# Altium footprint library WR-TBL_Pluggable Connector_5.00mm.PcbLib: 148 footprints (part 9 of 10)
Each footprint in its own frame and in the unit in brackets; x right, y up, seen from the top. Pads: shape width x height; smd on the part's side, far side on the other; paste and mask are expansions set on the pad; w line width, h text height; cw(c..) or ccw(c..) is an arc to the next point about the centre after c.
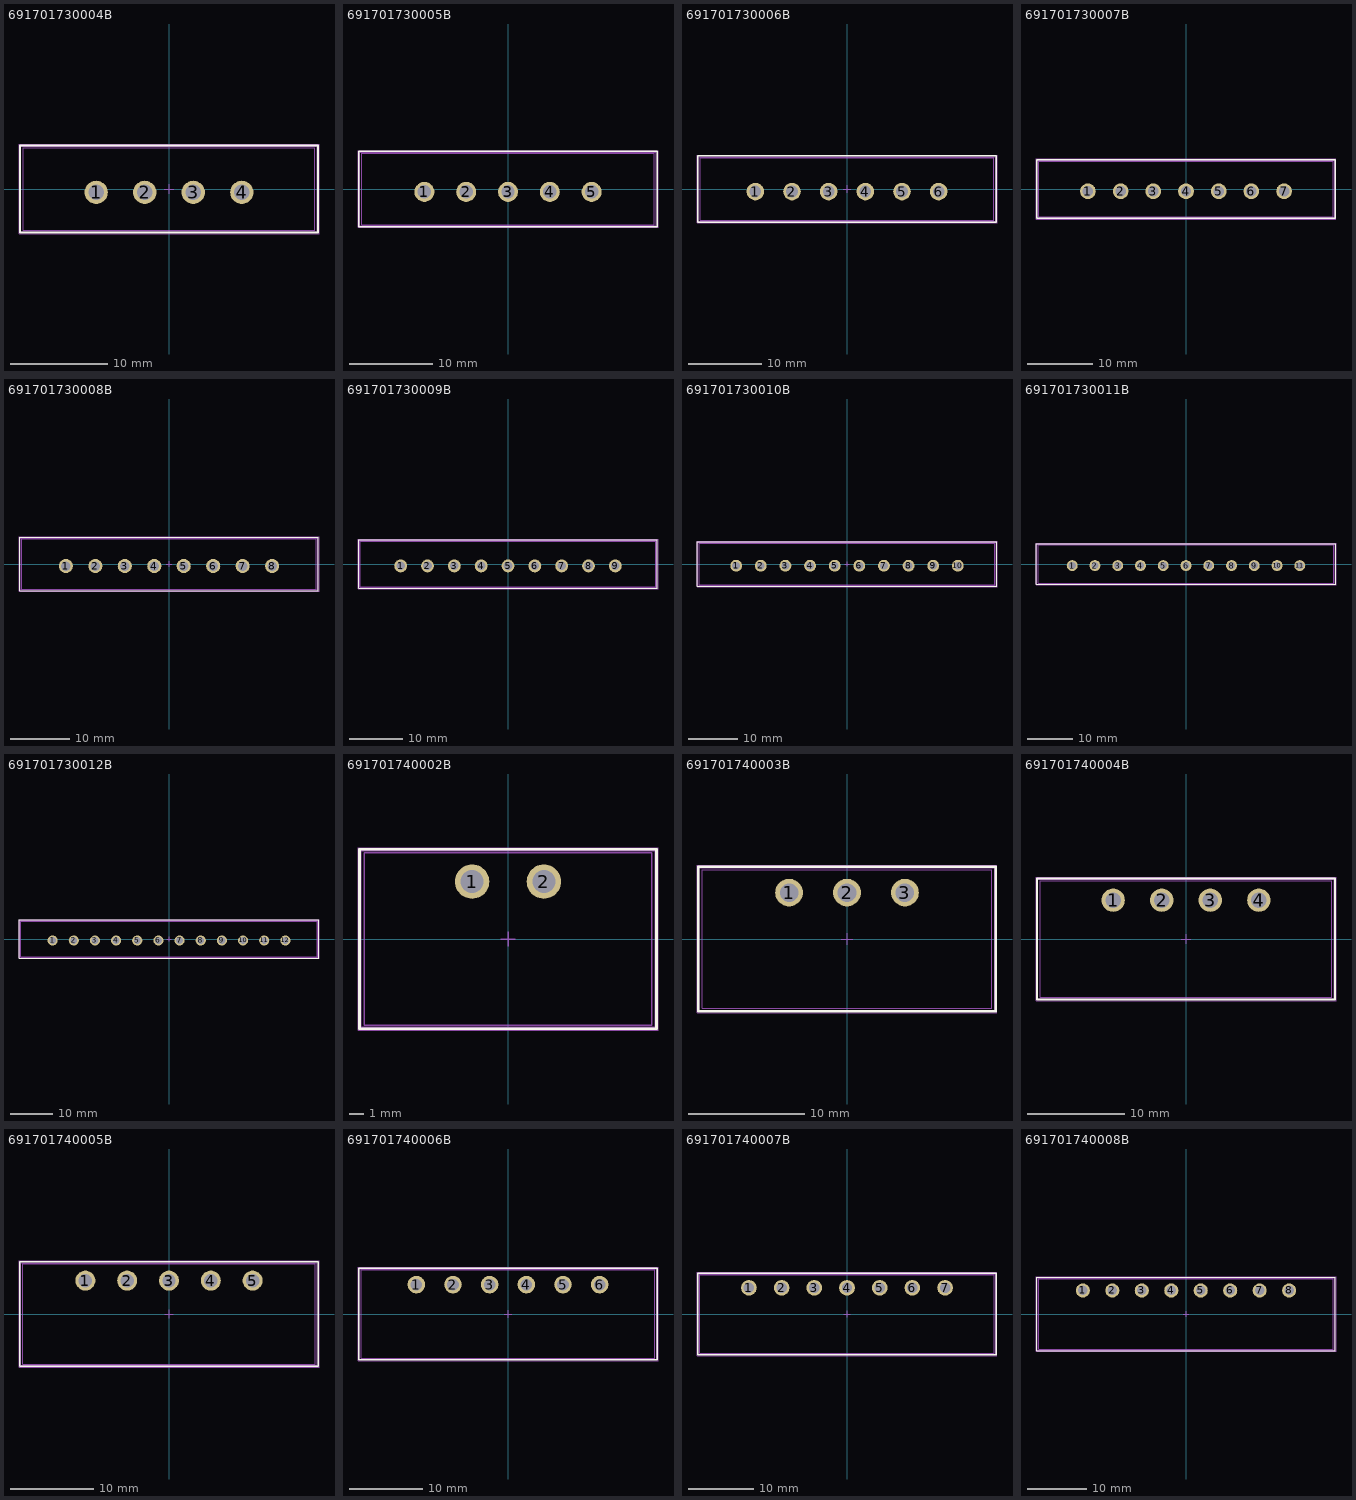
[diagram p8: the footprints below, top view; thin cyan lines are the x and y axes]

## 691701730004B [mm] "5.00 mm Closed Vertical PCB Header THR Type with Flanges, 04p"
height 12
pads (4):
  round 2.4 hole 1.6: 1(-7.5,-0.35) 2(-2.5,-0.35) 3(2.5,-0.35) 4(7.5,-0.35)
Top Overlay:
  lines w0.2: -15.35,-4.5 -15.35,4.5 15.35,4.5 15.35,-4.5 -15.35,-4.5
Top Paste:
  region: 5.5,1.5 9.5,1.5 9.5,-2.2 5.5,-2.2
  region: 0.5,1.5 4.5,1.5 4.5,-2.2 0.5,-2.2
  region: -4.5,1.5 -0.5,1.5 -0.5,-2.2 -4.5,-2.2
  region: -9.5,1.5 -5.5,1.5 -5.5,-2.2 -9.5,-2.2
Assembly Notes:
  text "Stencil thickness : 120 μm" at -5.156,-5.318 h1
Top Assembly:
  lines w0.1: -15.25,-4.4 -15.25,4.4 15.25,4.4 15.25,-4.4 -15.25,-4.4
Top Designator:
  text ".Designator" at -3.647,-0.357 h1
Top 3D Body:
  lines w0.1: -15,-4.25 15,-4.25 15,4.25 -15,4.25 -15,-4.25
Top Courtyard:
  lines w0.05: -15.45,-4.6 15.45,-4.6 15.45,4.6 -15.45,4.6 -15.45,-4.6
Top Component Center:
  lines w0.1: -0.5,0 0.5,0 ; 0,-0.5 0,0.5
3D body "691701730004B.stp": height 12.06, standoff -2.55, extent -15,-4.25 15,4.25

## 691701730005B [mm] "5.00 mm Closed Vertical PCB Header THR Type with Flanges, 05p"
height 12
pads (5):
  round 2.4 hole 1.6: 1(-10,-0.35) 2(-5,-0.35) 3(0,-0.35) 4(5,-0.35) 5(10,-0.35)
Top Overlay:
  lines w0.2: -17.85,-4.5 17.85,-4.5 17.85,4.5 -17.85,4.5 -17.85,-4.5
Top Paste:
  region: 3,1.5 7,1.5 7,-2.2 3,-2.2
  region: -2,1.5 2,1.5 2,-2.2 -2,-2.2
  region: -7,1.5 -3,1.5 -3,-2.2 -7,-2.2
  region: -12,1.5 -8,1.5 -8,-2.2 -12,-2.2
  region: 8,1.5 12,1.5 12,-2.2 8,-2.2
Assembly Notes:
  text "Stencil thickness : 120 μm" at -5.156,-5.318 h1
Top Assembly:
  lines w0.1: -17.75,-4.4 17.75,-4.4 17.75,4.4 -17.75,4.4 -17.75,-4.4
Top Designator:
  text ".Designator" at -3.647,-0.357 h1
Top 3D Body:
  lines w0.1: -17.5,-4.25 -17.5,4.25 17.5,4.25 17.5,-4.25 -17.5,-4.25
Top Courtyard:
  lines w0.05: -17.95,-4.6 -17.95,4.6 17.95,4.6 17.95,-4.6 -17.95,-4.6
Top Component Center:
  lines w0.1: -0.5,0 0.5,0 ; 0,-0.5 0,0.5
3D body "691701730005B.stp": height 12.06, standoff -2.55, extent -17.5,-4.25 17.5,4.25

## 691701730006B [mm] "5.00 mm Closed Vertical PCB Header THR Type with Flanges, 06p"
height 12
pads (6):
  round 2.4 hole 1.6: 1(-12.5,-0.35) 2(-7.5,-0.35) 3(-2.5,-0.35) 4(2.5,-0.35) 5(7.5,-0.35) 6(12.5,-0.35)
Top Overlay:
  lines w0.2: -20.35,-4.5 20.35,-4.5 20.35,4.5 -20.35,4.5 -20.35,-4.5
Top Paste:
  region: 5.5,1.5 9.5,1.5 9.5,-2.2 5.5,-2.2
  region: -14.5,1.5 -10.5,1.5 -10.5,-2.2 -14.5,-2.2
  region: -9.5,1.5 -5.5,1.5 -5.5,-2.2 -9.5,-2.2
  region: -4.5,1.5 -0.5,1.5 -0.5,-2.2 -4.5,-2.2
  region: 0.5,1.5 4.5,1.5 4.5,-2.2 0.5,-2.2
  region: 10.5,1.5 14.5,1.5 14.5,-2.2 10.5,-2.2
Assembly Notes:
  text "Stencil thickness : 120 μm" at -5.156,-5.318 h1
Top Assembly:
  lines w0.1: -20.25,-4.4 20.25,-4.4 20.25,4.4 -20.25,4.4 -20.25,-4.4
Top Designator:
  text ".Designator" at -3.647,-0.357 h1
Top 3D Body:
  lines w0.1: -20,-4.25 -20,4.25 20,4.25 20,-4.25 -20,-4.25
Top Courtyard:
  lines w0.05: -20.45,-4.6 -20.45,4.6 20.45,4.6 20.45,-4.6 -20.45,-4.6
Top Component Center:
  lines w0.1: -0.5,0 0.5,0 ; 0,-0.5 0,0.5
3D body "691701730006B.stp": height 12.06, standoff -2.55, extent -20,-4.25 20,4.25

## 691701730007B [mm] "5.00 mm Closed Vertical PCB Header THR Type with Flanges, 07p"
height 12
pads (7):
  round 2.4 hole 1.6: 1(-15,-0.35) 2(-10,-0.35) 3(-5,-0.35) 4(0,-0.35) 5(5,-0.35) 6(10,-0.35) 7(15,-0.35)
Top Overlay:
  lines w0.2: -22.85,-4.5 -22.85,4.5 22.85,4.5 22.85,-4.5 -22.85,-4.5
Top Paste:
  region: 13,1.5 17,1.5 17,-2.2 13,-2.2
  region: 3,1.5 7,1.5 7,-2.2 3,-2.2
  region: -17,1.5 -13,1.5 -13,-2.2 -17,-2.2
  region: -12,1.5 -8,1.5 -8,-2.2 -12,-2.2
  region: -7,1.5 -3,1.5 -3,-2.2 -7,-2.2
  region: -2,1.5 2,1.5 2,-2.2 -2,-2.2
  region: 8,1.5 12,1.5 12,-2.2 8,-2.2
Assembly Notes:
  text "Stencil thickness : 120 μm" at -5.156,-5.318 h1
Top Assembly:
  lines w0.1: -22.75,-4.4 -22.75,4.4 22.75,4.4 22.75,-4.4 -22.75,-4.4
Top Designator:
  text ".Designator" at -3.647,-0.357 h1
Top 3D Body:
  lines w0.1: -22.5,-4.25 22.5,-4.25 22.5,4.25 -22.5,4.25 -22.5,-4.25
Top Courtyard:
  lines w0.05: -22.95,-4.6 22.95,-4.6 22.95,4.6 -22.95,4.6 -22.95,-4.6
Top Component Center:
  lines w0.1: -0.5,0 0.5,0 ; 0,-0.5 0,0.5
3D body "691701730007B.stp": height 12.06, standoff -2.55, extent -22.5,-4.25 22.5,4.25

## 691701730008B [mm] "5.00 mm Closed Vertical PCB Header THR Type with Flanges, 08p"
height 12
pads (8):
  round 2.4 hole 1.6: 1(-17.5,-0.35) 2(-12.5,-0.35) 3(-7.5,-0.35) 4(-2.5,-0.35) 5(2.5,-0.35) 6(7.5,-0.35) 7(12.5,-0.35) 8(17.5,-0.35)
Top Overlay:
  lines w0.2: -25.35,-4.5 -25.35,4.5 25.35,4.5 25.35,-4.5 -25.35,-4.5
Top Paste:
  region: 15.5,1.5 19.5,1.5 19.5,-2.2 15.5,-2.2
  region: 10.5,1.5 14.5,1.5 14.5,-2.2 10.5,-2.2
  region: 0.5,1.5 4.5,1.5 4.5,-2.2 0.5,-2.2
  region: -19.5,1.5 -15.5,1.5 -15.5,-2.2 -19.5,-2.2
  region: -14.5,1.5 -10.5,1.5 -10.5,-2.2 -14.5,-2.2
  region: -9.5,1.5 -5.5,1.5 -5.5,-2.2 -9.5,-2.2
  region: -4.5,1.5 -0.5,1.5 -0.5,-2.2 -4.5,-2.2
  region: 5.5,1.5 9.5,1.5 9.5,-2.2 5.5,-2.2
Assembly Notes:
  text "Stencil thickness : 120 μm" at -5.156,-5.318 h1
Top Assembly:
  lines w0.1: -25.25,-4.4 -25.25,4.4 25.25,4.4 25.25,-4.4 -25.25,-4.4
Top Designator:
  text ".Designator" at -3.647,-0.357 h1
Top 3D Body:
  lines w0.1: -25,-4.25 25,-4.25 25,4.25 -25,4.25 -25,-4.25
Top Courtyard:
  lines w0.05: -25.45,-4.6 25.45,-4.6 25.45,4.6 -25.45,4.6 -25.45,-4.6
Top Component Center:
  lines w0.1: -0.5,0 0.5,0 ; 0,-0.5 0,0.5
3D body "691701730008B.stp": height 12.06, standoff -2.55, extent -25,-4.25 25,4.25

## 691701730009B [mm] "5.00 mm Closed Vertical PCB Header THR Type with Flanges, 09p"
height 12
pads (9):
  round 2.4 hole 1.6: 1(-20,-0.35) 2(-15,-0.35) 3(-10,-0.35) 4(-5,-0.35) 5(0,-0.35) 6(5,-0.35) 7(10,-0.35) 8(15,-0.35) 9(20,-0.35)
Top Overlay:
  lines w0.2: -27.85,-4.5 27.85,-4.5 27.85,4.5 -27.85,4.5 -27.85,-4.5
Top Paste:
  region: 3,1.5 7,1.5 7,-2.2 3,-2.2
  region: -7,1.5 -3,1.5 -3,-2.2 -7,-2.2
  region: -12,1.5 -8,1.5 -8,-2.2 -12,-2.2
  region: -17,1.5 -13,1.5 -13,-2.2 -17,-2.2
  region: -22,1.5 -18,1.5 -18,-2.2 -22,-2.2
  region: -2,1.5 2,1.5 2,-2.2 -2,-2.2
  region: 8,1.5 12,1.5 12,-2.2 8,-2.2
  region: 13,1.5 17,1.5 17,-2.2 13,-2.2
  region: 18,1.5 22,1.5 22,-2.2 18,-2.2
Assembly Notes:
  text "Stencil thickness : 120 μm" at -5.156,-5.318 h1
Top Assembly:
  lines w0.1: -27.75,-4.4 27.75,-4.4 27.75,4.4 -27.75,4.4 -27.75,-4.4
Top Designator:
  text ".Designator" at -3.647,-0.357 h1
Top 3D Body:
  lines w0.1: -27.5,-4.25 -27.5,4.25 27.5,4.25 27.5,-4.25 -27.5,-4.25
Top Courtyard:
  lines w0.05: -27.95,-4.6 -27.95,4.6 27.95,4.6 27.95,-4.6 -27.95,-4.6
Top Component Center:
  lines w0.1: -0.5,0 0.5,0 ; 0,-0.5 0,0.5
3D body "691701730009B.stp": height 12.06, standoff -2.55, extent -27.5,-4.25 27.5,4.25

## 691701730010B [mm] "5.00 mm Closed Vertical PCB Header THR Type with Flanges, 10p"
height 12
pads (10):
  round 2.4 hole 1.6: 1(-22.5,-0.35) 2(-17.5,-0.35) 3(-12.5,-0.35) 4(-7.5,-0.35) 5(-2.5,-0.35) 6(2.5,-0.35) 7(7.5,-0.35) 8(12.5,-0.35) 9(17.5,-0.35) 10(22.5,-0.35)
Top Overlay:
  lines w0.2: -30.35,-4.5 30.35,-4.5 30.35,4.5 -30.35,4.5 -30.35,-4.5
Top Paste:
  region: 20.5,1.5 24.5,1.5 24.5,-2.2 20.5,-2.2
  region: 15.5,1.5 19.5,1.5 19.5,-2.2 15.5,-2.2
  region: 10.5,1.5 14.5,1.5 14.5,-2.2 10.5,-2.2
  region: 5.5,1.5 9.5,1.5 9.5,-2.2 5.5,-2.2
  region: -4.5,1.5 -0.5,1.5 -0.5,-2.2 -4.5,-2.2
  region: -24.5,1.5 -20.5,1.5 -20.5,-2.2 -24.5,-2.2
  region: -19.5,1.5 -15.5,1.5 -15.5,-2.2 -19.5,-2.2
  region: -14.5,1.5 -10.5,1.5 -10.5,-2.2 -14.5,-2.2
  region: -9.5,1.5 -5.5,1.5 -5.5,-2.2 -9.5,-2.2
  region: 0.5,1.5 4.5,1.5 4.5,-2.2 0.5,-2.2
Assembly Notes:
  text "Stencil thickness : 120 μm" at -5.156,-5.318 h1
Top Assembly:
  lines w0.1: -30.25,-4.4 30.25,-4.4 30.25,4.4 -30.25,4.4 -30.25,-4.4
Top Designator:
  text ".Designator" at -3.647,-0.357 h1
Top 3D Body:
  lines w0.1: -30,-4.25 -30,4.25 30,4.25 30,-4.25 -30,-4.25
Top Courtyard:
  lines w0.05: -30.45,-4.6 -30.45,4.6 30.45,4.6 30.45,-4.6 -30.45,-4.6
Top Component Center:
  lines w0.1: -0.5,0 0.5,0 ; 0,-0.5 0,0.5
3D body "691701730010B.stp": height 12.06, standoff -2.55, extent -30,-4.25 30,4.25

## 691701730011B [mm] "5.00 mm Closed Vertical PCB Header THR Type with Flanges, 11p"
height 12
pads (11):
  round 2.4 hole 1.6: 1(-25,-0.35) 2(-20,-0.35) 3(-15,-0.35) 4(-10,-0.35) 5(-5,-0.35) 6(0,-0.35) 7(5,-0.35) 8(10,-0.35) 9(15,-0.35) 10(20,-0.35) 11(25,-0.35)
Top Overlay:
  lines w0.2: -32.85,-4.5 32.85,-4.5 32.85,4.5 -32.85,4.5 -32.85,-4.5
Top Paste:
  region: 23,1.5 27,1.5 27,-2.2 23,-2.2
  region: 18,1.5 22,1.5 22,-2.2 18,-2.2
  region: 13,1.5 17,1.5 17,-2.2 13,-2.2
  region: 8,1.5 12,1.5 12,-2.2 8,-2.2
  region: 3,1.5 7,1.5 7,-2.2 3,-2.2
  region: -7,1.5 -3,1.5 -3,-2.2 -7,-2.2
  region: -27,1.5 -23,1.5 -23,-2.2 -27,-2.2
  region: -22,1.5 -18,1.5 -18,-2.2 -22,-2.2
  region: -17,1.5 -13,1.5 -13,-2.2 -17,-2.2
  region: -12,1.5 -8,1.5 -8,-2.2 -12,-2.2
  region: -2,1.5 2,1.5 2,-2.2 -2,-2.2
Assembly Notes:
  text "Stencil thickness : 120 μm" at -5.156,-5.318 h1
Top Assembly:
  lines w0.1: -32.75,-4.4 32.75,-4.4 32.75,4.4 -32.75,4.4 -32.75,-4.4
Top Designator:
  text ".Designator" at -3.647,-0.357 h1
Top 3D Body:
  lines w0.1: -32.5,-4.25 -32.5,4.25 32.5,4.25 32.5,-4.25 -32.5,-4.25
Top Courtyard:
  lines w0.05: -32.95,-4.6 -32.95,4.6 32.95,4.6 32.95,-4.6 -32.95,-4.6
Top Component Center:
  lines w0.1: -0.5,0 0.5,0 ; 0,-0.5 0,0.5
3D body "691701730011B.stp": height 12.06, standoff -2.55, extent -32.5,-4.25 32.5,4.25

## 691701730012B [mm] "5.00 mm Closed Vertical PCB Header THR Type with Flanges, 12p"
height 12
pads (12):
  round 2.4 hole 1.6: 1(-27.5,-0.35) 2(-22.5,-0.35) 3(-17.5,-0.35) 4(-12.5,-0.35) 5(-7.5,-0.35) 6(-2.5,-0.35) 7(2.5,-0.35) 8(7.5,-0.35) 9(12.5,-0.35) 10(17.5,-0.35) 11(22.5,-0.35) 12(27.5,-0.35)
Top Overlay:
  lines w0.2: -35.35,-4.5 -35.35,4.5 35.35,4.5 35.35,-4.5 -35.35,-4.5
Top Paste:
  region: -4.5,1.5 -0.5,1.5 -0.5,-2.2 -4.5,-2.2
  region: -14.5,1.5 -10.5,1.5 -10.5,-2.2 -14.5,-2.2
  region: -19.5,1.5 -15.5,1.5 -15.5,-2.2 -19.5,-2.2
  region: -24.5,1.5 -20.5,1.5 -20.5,-2.2 -24.5,-2.2
  region: -29.5,1.5 -25.5,1.5 -25.5,-2.2 -29.5,-2.2
  region: -9.5,1.5 -5.5,1.5 -5.5,-2.2 -9.5,-2.2
  region: 0.5,1.5 4.5,1.5 4.5,-2.2 0.5,-2.2
  region: 5.5,1.5 9.5,1.5 9.5,-2.2 5.5,-2.2
  region: 10.5,1.5 14.5,1.5 14.5,-2.2 10.5,-2.2
  region: 15.5,1.5 19.5,1.5 19.5,-2.2 15.5,-2.2
  region: 20.5,1.5 24.5,1.5 24.5,-2.2 20.5,-2.2
  region: 25.5,1.5 29.5,1.5 29.5,-2.2 25.5,-2.2
Assembly Notes:
  text "Stencil thickness : 120 μm" at -5.156,-5.318 h1
Top Assembly:
  lines w0.1: -35.25,-4.4 -35.25,4.4 35.25,4.4 35.25,-4.4 -35.25,-4.4
Top Designator:
  text ".Designator" at -3.647,-0.357 h1
Top 3D Body:
  lines w0.1: -35,-4.25 35,-4.25 35,4.25 -35,4.25 -35,-4.25
Top Courtyard:
  lines w0.05: -35.45,-4.6 35.45,-4.6 35.45,4.6 -35.45,4.6 -35.45,-4.6
Top Component Center:
  lines w0.1: -0.5,0 0.5,0 ; 0,-0.5 0,0.5
3D body "691701730012B.stp": height 12.06, standoff -2.55, extent -35,-4.25 35,4.25

## 691701740002B [mm] "5.00 mm Closed Horizontal PCB Header THR Type with Flanges, 02p"
height 8.5
pads (2):
  round 2.4 hole 1.6: 1(-2.5,4) 2(2.5,4)
Top Overlay:
  lines w0.2: -10.35,-6.25 10.35,-6.25 10.35,6.25 -10.35,6.25 -10.35,-6.25
Top Paste:
  region: 0.5,5.85 4.5,5.85 4.5,2.15 0.5,2.15
  region: -4.5,5.85 -0.5,5.85 -0.5,2.15 -4.5,2.15
Assembly Notes:
  text "Stencil thickness : 120 μm" at -5.156,-7.101 h1
Top Assembly:
  lines w0.1: -10.25,-6.15 10.25,-6.15 10.25,6.15 -10.25,6.15 -10.25,-6.15
Top Designator:
  text ".Designator" at -3.647,-0.357 h1
Top 3D Body:
  lines w0.1: -10,-6 -10,6 10,6 10,-6 -10,-6
Top Courtyard:
  lines w0.05: -10.45,-6.35 10.45,-6.35 10.45,6.35 -10.45,6.35 -10.45,-6.35
Top Component Center:
  lines w0.1: -0.5,0 0.5,0 ; 0,-0.5 0,0.5
3D body "691701740002B.stp": height 8.5, standoff -2.6, extent -10,-6.01 10,6

## 691701740003B [mm] "5.00 mm Closed Horizontal PCB Header THR Type with Flanges, 03p"
height 8.5
pads (3):
  round 2.4 hole 1.6: 1(-5,4) 2(0,4) 3(5,4)
Top Overlay:
  lines w0.2: -12.85,-6.25 -12.85,6.25 12.85,6.25 12.85,-6.25 -12.85,-6.25
Top Paste:
  region: -7,5.85 -3,5.85 -3,2.15 -7,2.15
  region: -2,5.85 2,5.85 2,2.15 -2,2.15
  region: 3,5.85 7,5.85 7,2.15 3,2.15
Assembly Notes:
  text "Stencil thickness : 120 μm" at -5.156,-7.101 h1
Top Assembly:
  lines w0.1: -12.75,-6.15 -12.75,6.15 12.75,6.15 12.75,-6.15 -12.75,-6.15
Top Designator:
  text ".Designator" at -3.647,-0.357 h1
Top 3D Body:
  lines w0.1: -12.5,-6 12.5,-6 12.5,6 -12.5,6 -12.5,-6
Top Courtyard:
  lines w0.05: -12.95,-6.35 -12.95,6.35 12.95,6.35 12.95,-6.35 -12.95,-6.35
Top Component Center:
  lines w0.1: -0.5,0 0.5,0 ; 0,-0.5 0,0.5
3D body "691701740003B.stp": height 8.5, standoff -2.6, extent -12.5,-6.01 12.5,6

## 691701740004B [mm] "5.00 mm Closed Horizontal PCB Header THR Type with Flanges, 04p"
height 8.5
pads (4):
  round 2.4 hole 1.6: 1(-7.5,4) 2(-2.5,4) 3(2.5,4) 4(7.5,4)
Top Overlay:
  lines w0.2: -15.35,-6.25 -15.35,6.25 15.35,6.25 15.35,-6.25 -15.35,-6.25
Top Paste:
  region: 5.5,5.85 9.5,5.85 9.5,2.15 5.5,2.15
  region: 0.5,5.85 4.5,5.85 4.5,2.15 0.5,2.15
  region: -4.5,5.85 -0.5,5.85 -0.5,2.15 -4.5,2.15
  region: -9.5,5.85 -5.5,5.85 -5.5,2.15 -9.5,2.15
Assembly Notes:
  text "Stencil thickness : 120 μm" at -5.156,-7.101 h1
Top Assembly:
  lines w0.1: -15.25,-6.15 -15.25,6.15 15.25,6.15 15.25,-6.15 -15.25,-6.15
Top Designator:
  text ".Designator" at -3.647,-0.357 h1
Top 3D Body:
  lines w0.1: -15,-6 15,-6 15,6 -15,6 -15,-6
Top Courtyard:
  lines w0.05: -15.45,-6.35 -15.45,6.35 15.45,6.35 15.45,-6.35 -15.45,-6.35
Top Component Center:
  lines w0.1: -0.5,0 0.5,0 ; 0,-0.5 0,0.5
3D body "691701740004B.stp": height 8.5, standoff -2.6, extent -15,-6.01 15,6

## 691701740005B [mm] "5.00 mm Closed Horizontal PCB Header THR Type with Flanges, 05p"
height 8.5
pads (5):
  round 2.4 hole 1.6: 1(-10,4) 2(-5,4) 3(0,4) 4(5,4) 5(10,4)
Top Overlay:
  lines w0.2: -17.85,-6.25 -17.85,6.25 17.85,6.25 17.85,-6.25 -17.85,-6.25
Top Paste:
  region: 8,5.85 12,5.85 12,2.15 8,2.15
  region: 3,5.85 7,5.85 7,2.15 3,2.15
  region: -2,5.85 2,5.85 2,2.15 -2,2.15
  region: -7,5.85 -3,5.85 -3,2.15 -7,2.15
  region: -12,5.85 -8,5.85 -8,2.15 -12,2.15
Assembly Notes:
  text "Stencil thickness : 120 μm" at -5.156,-7.101 h1
Top Assembly:
  lines w0.1: -17.75,-6.15 -17.75,6.15 17.75,6.15 17.75,-6.15 -17.75,-6.15
Top Designator:
  text ".Designator" at -3.647,-0.357 h1
Top 3D Body:
  lines w0.1: -17.5,-6 17.5,-6 17.5,6 -17.5,6 -17.5,-6
Top Courtyard:
  lines w0.05: -17.95,-6.35 -17.95,6.35 17.95,6.35 17.95,-6.35 -17.95,-6.35
Top Component Center:
  lines w0.1: -0.5,0 0.5,0 ; 0,-0.5 0,0.5
3D body "691701740005B.stp": height 8.5, standoff -2.6, extent -17.5,-6.01 17.5,6

## 691701740006B [mm] "5.00 mm Closed Horizontal PCB Header THR Type with Flanges, 06p"
height 8.5
pads (6):
  round 2.4 hole 1.6: 1(-12.5,4) 2(-7.5,4) 3(-2.5,4) 4(2.5,4) 5(7.5,4) 6(12.5,4)
Top Overlay:
  lines w0.2: -20.35,-6.25 -20.35,6.25 20.35,6.25 20.35,-6.25 -20.35,-6.25
Top Paste:
  region: 5.5,5.85 9.5,5.85 9.5,2.15 5.5,2.15
  region: 0.5,5.85 4.5,5.85 4.5,2.15 0.5,2.15
  region: -4.5,5.85 -0.5,5.85 -0.5,2.15 -4.5,2.15
  region: -9.5,5.85 -5.5,5.85 -5.5,2.15 -9.5,2.15
  region: -14.5,5.85 -10.5,5.85 -10.5,2.15 -14.5,2.15
  region: 10.5,5.85 14.5,5.85 14.5,2.15 10.5,2.15
Assembly Notes:
  text "Stencil thickness : 120 μm" at -5.156,-7.101 h1
Top Assembly:
  lines w0.1: -20.25,-6.15 -20.25,6.15 20.25,6.15 20.25,-6.15 -20.25,-6.15
Top Designator:
  text ".Designator" at -3.647,-0.357 h1
Top 3D Body:
  lines w0.1: -20,-6 20,-6 20,6 -20,6 -20,-6
Top Courtyard:
  lines w0.05: -20.45,-6.35 -20.45,6.35 20.45,6.35 20.45,-6.35 -20.45,-6.35
Top Component Center:
  lines w0.1: -0.5,0 0.5,0 ; 0,-0.5 0,0.5
3D body "691701740006B.stp": height 8.5, standoff -2.6, extent -20,-6.01 20,6

## 691701740007B [mm] "5.00 mm Closed Horizontal PCB Header THR Type with Flanges, 07p"
height 8.5
pads (7):
  round 2.4 hole 1.6: 1(-15,4) 2(-10,4) 3(-5,4) 4(0,4) 5(5,4) 6(10,4) 7(15,4)
Top Overlay:
  lines w0.2: -22.85,-6.25 -22.85,6.25 22.85,6.25 22.85,-6.25 -22.85,-6.25
Top Paste:
  region: 13,5.85 17,5.85 17,2.15 13,2.15
  region: 3,5.85 7,5.85 7,2.15 3,2.15
  region: -2,5.85 2,5.85 2,2.15 -2,2.15
  region: -7,5.85 -3,5.85 -3,2.15 -7,2.15
  region: -12,5.85 -8,5.85 -8,2.15 -12,2.15
  region: -17,5.85 -13,5.85 -13,2.15 -17,2.15
  region: 8,5.85 12,5.85 12,2.15 8,2.15
Assembly Notes:
  text "Stencil thickness : 120 μm" at -5.156,-7.101 h1
Top Assembly:
  lines w0.1: -22.75,-6.15 -22.75,6.15 22.75,6.15 22.75,-6.15 -22.75,-6.15
Top Designator:
  text ".Designator" at -3.647,-0.357 h1
Top 3D Body:
  lines w0.1: -22.5,-6 22.5,-6 22.5,6 -22.5,6 -22.5,-6
Top Courtyard:
  lines w0.05: -22.95,-6.35 -22.95,6.35 22.95,6.35 22.95,-6.35 -22.95,-6.35
Top Component Center:
  lines w0.1: -0.5,0 0.5,0 ; 0,-0.5 0,0.5
3D body "691701740007B.stp": height 8.5, standoff -2.6, extent -22.5,-6.01 22.5,6

## 691701740008B [mm] "5.00 mm Closed Horizontal PCB Header THR Type with Flanges, 08p"
height 8.5
pads (8):
  round 2.4 hole 1.6: 1(-17.5,4) 2(-12.5,4) 3(-7.5,4) 4(-2.5,4) 5(2.5,4) 6(7.5,4) 7(12.5,4) 8(17.5,4)
Top Overlay:
  lines w0.2: -25.35,-6.25 -25.35,6.25 25.35,6.25 25.35,-6.25 -25.35,-6.25
Top Paste:
  region: 5.5,5.85 9.5,5.85 9.5,2.15 5.5,2.15
  region: -19.5,5.85 -15.5,5.85 -15.5,2.15 -19.5,2.15
  region: -14.5,5.85 -10.5,5.85 -10.5,2.15 -14.5,2.15
  region: -9.5,5.85 -5.5,5.85 -5.5,2.15 -9.5,2.15
  region: -4.5,5.85 -0.5,5.85 -0.5,2.15 -4.5,2.15
  region: 0.5,5.85 4.5,5.85 4.5,2.15 0.5,2.15
  region: 10.5,5.85 14.5,5.85 14.5,2.15 10.5,2.15
  region: 15.5,5.85 19.5,5.85 19.5,2.15 15.5,2.15
Assembly Notes:
  text "Stencil thickness : 120 μm" at -5.156,-7.101 h1
Top Assembly:
  lines w0.1: -25.25,-6.15 -25.25,6.15 25.25,6.15 25.25,-6.15 -25.25,-6.15
Top Designator:
  text ".Designator" at -3.647,-0.357 h1
Top 3D Body:
  lines w0.1: -25,-6 25,-6 25,6 -25,6 -25,-6
Top Courtyard:
  lines w0.05: -25.45,-6.35 -25.45,6.35 25.45,6.35 25.45,-6.35 -25.45,-6.35
Top Component Center:
  lines w0.1: -0.5,0 0.5,0 ; 0,-0.5 0,0.5
3D body "691701740008B.stp": height 8.5, standoff -2.6, extent -25,-6.01 25,6